# EAGLE library part MP4401 (library FET n-ch)
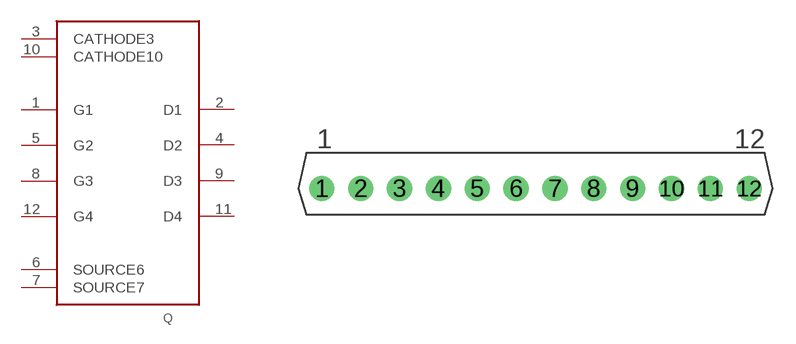
[diagram p0: symbol with the pads of MP4401; footprint MP4401]

Designator prefix Q

## MP4401  [MP4401]
1  G1
2  D1
3  CATHODE3
4  D2
5  G2
6  SOURCE6  pwr
7  SOURCE7  pwr
8  G3
9  D3
10  CATHODE10
11  D4
12  G4

## Footprint MP4401 (pad centres in mm)
MP4401 is a n ch FET, by TOSHIBA (follow data is from Akituki)秋月電子 <http://akizukidenshi.com/catalog/g/gI-00419/> ----------------------------------------------------- ■シングルインライン１２ピン ■モータードライブ・ソレノイドなどに最適！ ◆ＶＤＳＳ：１２０Ｖ ◆ＩＤ：３Ａ（ピーク１２Ａ） ◆オン抵抗：0.42Ω（ＶＧＳ＝４Ｖ） ◆４Ｖ駆動可能 絶対最大定格 項目 記号 定格 単位 ドレイン・ソース間電圧 ＶＤＳＳ １２０ Ｖ ゲート・ソース間電圧 ＶＧＳＳ ±２０ Ｖ ドレイン電流 ＩＤ ３ Ａ ピーク・ドレイン電流 ＩＤ １２ Ａ ドレイン損失(1ch) ＰＤ ２．２ Ｗ ドレイン損失(4ch) ＰＴ ２８ Ｗ
drill 1.1: 1 -13.97,0; 2 -11.43,0; 3 -8.89,0; 4 -6.35,0; 5 -3.81,0; 6 -1.27,0; 7 1.27,0; 8 3.81,0; 9 6.35,0; 10 8.89,0; 11 11.43,0; 12 13.97,0